# Altium footprint library MODULE_MICROSD_SPI_OR_SDIO_CARD.PcbLib: 1 footprints
Each footprint in its own frame and in the unit in brackets; x right, y up, seen from the top. Pads: shape width x height; smd on the part's side, far side on the other; paste and mask are expansions set on the pad; w line width, h text height; cw(c..) or ccw(c..) is an arc to the next point about the centre after c.
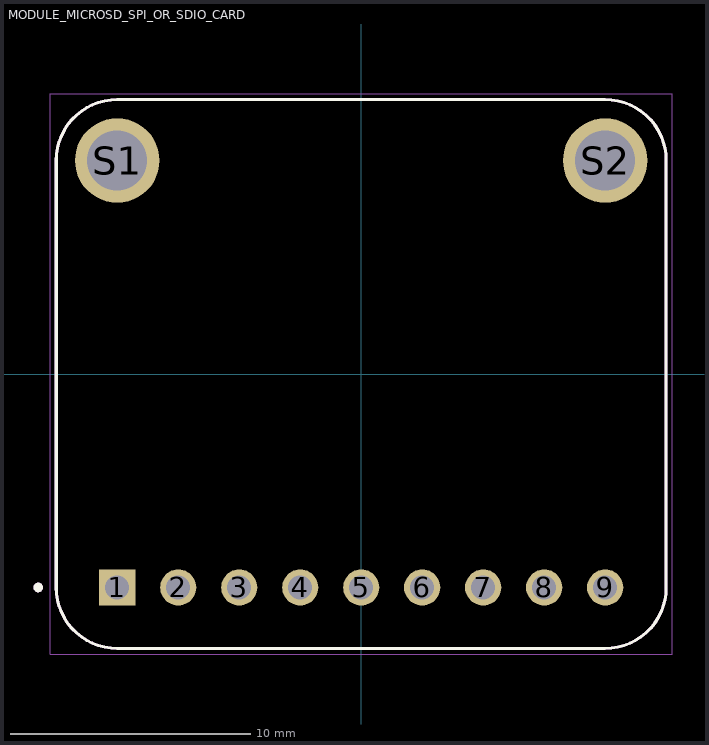
[diagram p0: the footprint, top view; thin cyan lines are the x and y axes]

## MODULE_MICROSD_SPI_OR_SDIO_CARD [mm]
pads (11):
  rect 1.508x1.508 / inner round 1.508 / far side rect 1.508x1.508 hole 1: 1(-10.16,-8.89)
  round 1.508 hole 1: 2(-7.62,-8.89) 3(-5.08,-8.89) 4(-2.54,-8.89) 5(0,-8.89) 6(2.54,-8.89) 7(5.08,-8.89) 8(7.62,-8.89) 9(10.16,-8.89)
  round 3.516 hole 2.5: S1(-10.16,8.89) S2(10.16,8.89)
Top Overlay:
  circle w0.2: c-13.45,-8.89 r0.1
  lines w0.127: -12.7,-8.89 ccw(c-10.16,-8.89) -10.16,-11.43 10.16,-11.43 ccw(c10.16,-8.89) 12.7,-8.89 12.7,8.89 ccw(c10.16,8.89) 10.16,11.43 -10.16,11.43 ccw(c-10.16,8.89) -12.7,8.89 -12.7,-8.89
Assembly Top:
  circle w0.2: c-13.45,-8.89 r0.1
  lines w0.127: -12.7,-8.89 ccw(c-10.16,-8.89) -10.16,-11.43 10.16,-11.43 ccw(c10.16,-8.89) 12.7,-8.89 12.7,8.89 ccw(c10.16,8.89) 10.16,11.43 -10.16,11.43 ccw(c-10.16,8.89) -12.7,8.89 -12.7,-8.89
Courtyard Top:
  lines w0.05: -12.95,-11.68 -12.95,11.68 12.95,11.68 12.95,-11.68 -12.95,-11.68
3D body "step_temp.STEP": height 3.45, standoff 0, extent -12.7,-11.43 12.7,11.43